# EAGLE library part USB_B (library pecs)
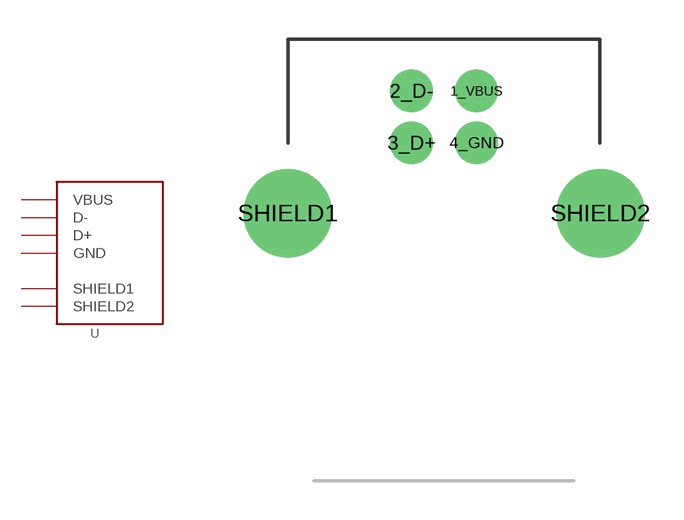
[diagram p7: symbol with the pads of USB_MOLEX_7041; footprint USB_MOLEX_7041]

Designator prefix -

## USB_B  [USB_MOLEX_7041]
1_VBUS  VBUS
2_D-  D-
3_D+  D+
4_GND  GND
SHIELD1  SHIELD1
SHIELD2  SHIELD2

## Footprint USB_MOLEX_7041 (pad centres in mm)
drill 1.1: 1_VBUS 1.25,0; 2_D- -1.25,0; 3_D+ -1.25,-2; 4_GND 1.25,-2
drill 2.4: SHIELD1 -6.02,-4.71; SHIELD2 6.02,-4.71